# EAGLE library part IT120 (library synthdiy)
Linear Systems Dual TRANSISTOR
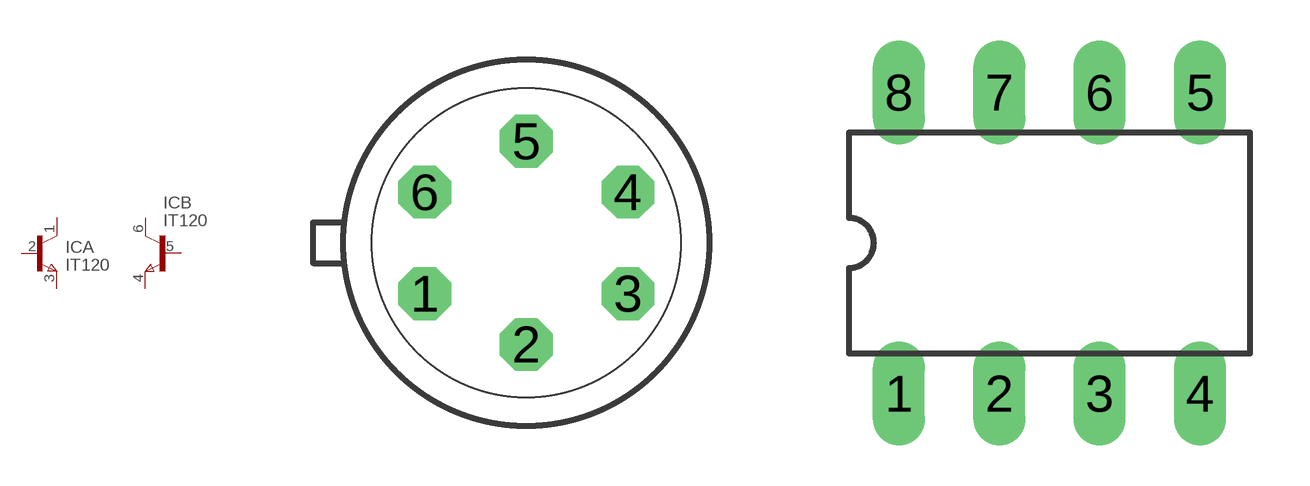
[diagram p12: symbol with the pads of TO78; footprints TO78, DIL08]

Designator prefix IC; gates A=NPN-L B=NPN-R

## IT120H  [TO78]
1  A:C  pas
2  A:B  pas
3  A:E  pas
4  B:E  pas
5  B:B  pas
6  B:C  pas

## IT120N  [DIL08]
1  A:C  pas
2  A:B  pas
3  A:E  pas
6  B:E  pas
7  B:B  pas
8  B:C  pas

## Footprint TO78 (pad centres in mm)
Metal Can Package
drill 0.813 octagon: 1 -2.54,-1.27; 2 0,-2.54; 3 2.54,-1.27; 4 2.54,1.27; 5 0,2.54; 6 -2.54,1.27

## Footprint DIL08 (pad centres in mm)
Dual In Line 8
drill 0.813 long: 1 -3.81,-3.81; 2 -1.27,-3.81; 3 1.27,-3.81; 4 3.81,-3.81; 5 3.81,3.81; 6 1.27,3.81; 7 -1.27,3.81; 8 -3.81,3.81